# Altium footprint library IC_QFP.PcbLib: 10 footprints (part 3 of 4)
Each footprint in its own frame and in the unit in brackets; x right, y up, seen from the top. Pads: shape width x height; smd on the part's side, far side on the other; paste and mask are expansions set on the pad; w line width, h text height; cw(c..) or ccw(c..) is an arc to the next point about the centre after c.
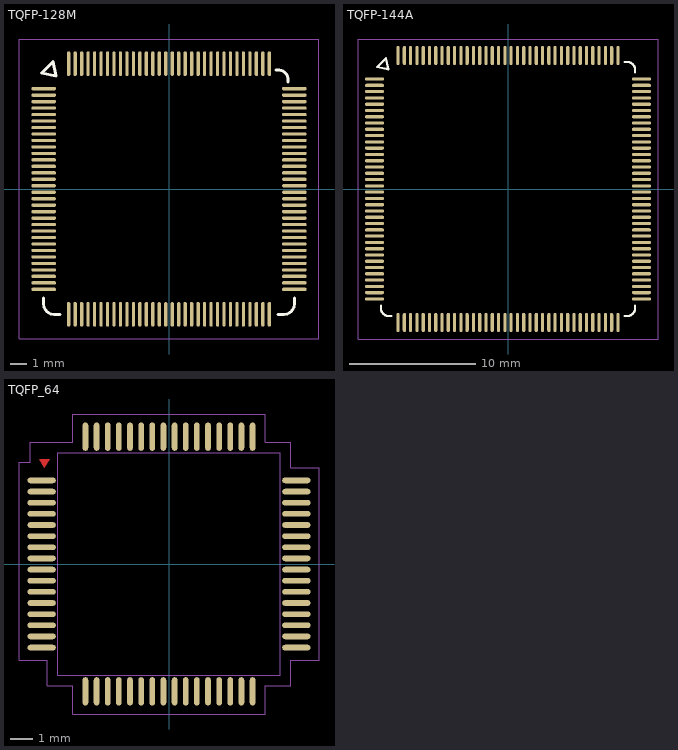
[diagram p2: the footprints below, top view; thin cyan lines are the x and y axes]

## TQFP-128M [mil]
pads (128):
  oval 60x8 smd mask+2: 1(-305,244.09) 2(-305,228.35) 3(-305,212.6) 4(-305,196.85) 5(-305,181.1) 6(-305,165.35) 7(-305,149.61) 8(-305,133.86) 9(-305,118.11) 10(-305,102.36) 11(-305,86.61) 12(-305,70.87) 13(-305,55.12) 14(-305,39.37) 15(-305,23.62) 16(-305,7.87) 17(-305,-7.87) 18(-305,-23.62) 19(-305,-39.37) 20(-305,-55.12) 21(-305,-70.87) 22(-305,-86.61) 23(-305,-102.36) 24(-305,-118.11) 25(-305,-133.86) 26(-305,-149.61) 27(-305,-165.35) 28(-305,-181.1) 29(-305,-196.85) 30(-305,-212.6) 31(-305,-228.35) 32(-305,-244.09) 65(305,-244.09) 66(305,-228.35) 67(305,-212.6) 68(305,-196.85) 69(305,-181.1) 70(305,-165.35) 71(305,-149.61) 72(305,-133.86) 73(305,-118.11) 74(305,-102.36) 75(305,-86.61) 76(305,-70.87) 77(305,-55.12) 78(305,-39.37) 79(305,-23.62) 80(305,-7.87) 81(305,7.87) 82(305,23.62) 83(305,39.37) 84(305,55.12) 85(305,70.87) 86(305,86.61) 87(305,102.36) 88(305,118.11) 89(305,133.86) 90(305,149.61) 91(305,165.35) 92(305,181.1) 93(305,196.85) 94(305,212.6) 95(305,228.35) 96(305,244.09)
  oval 8x60 smd mask+2: 33(-244.09,-305) 34(-228.35,-305) 35(-212.6,-305) 36(-196.85,-305) 37(-181.1,-305) 38(-165.35,-305) 39(-149.61,-305) 40(-133.86,-305) 41(-118.11,-305) 42(-102.36,-305) 43(-86.61,-305) 44(-70.87,-305) 45(-55.12,-305) 46(-39.37,-305) 47(-23.62,-305) 48(-7.87,-305) 49(7.87,-305) 50(23.62,-305) 51(39.37,-305) 52(55.12,-305) 53(70.87,-305) 54(86.61,-305) 55(102.36,-305) 56(118.11,-305) 57(133.86,-305) 58(149.61,-305) 59(165.35,-305) 60(181.1,-305) 61(196.85,-305) 62(212.6,-305) 63(228.35,-305) 64(244.09,-305) 97(244.09,305) 98(228.35,305) 99(212.6,305) 100(196.85,305) 101(181.1,305) 102(165.35,305) 103(149.61,305) 104(133.86,305) 105(118.11,305) 106(102.36,305) 107(86.61,305) 108(70.87,305) 109(55.12,305) 110(39.37,305) 111(23.62,305) 112(7.87,305) 113(-7.87,305) 114(-23.62,305) 115(-39.37,305) 116(-55.12,305) 117(-70.87,305) 118(-86.61,305) 119(-102.36,305) 120(-118.11,305) 121(-133.86,305) 122(-149.61,305) 123(-165.35,305) 124(-181.1,305) 125(-196.85,305) 126(-212.6,305) 127(-228.35,305) 128(-244.09,305)
Top Overlay:
  lines w7: -305,-265 -305,-280 ccw(c-280,-280) -280,-305 -265,-305 ; 260,290 264.96,289.96 cw(c264.96,264.96) 289.96,264.96 290,260 ; 265,-305 280,-305 ccw(c280,-280) 305,-280 305,-265 ; -309.8,281.96 -275,275 -281.96,309.8 -309.8,281.96
Top Courtyard:
  lines w1: -365,-365 365,-365 365,365 -365,365 -365,-365
3D body: height 45.5, standoff 45, extent -224,198 -198,224
3D body: height 30, standoff 23, extent 240.09,275 248.09,285
3D body: height 7, standoff 0, extent 240.09,295 248.09,315
3D body: height 30, standoff 0, extent 240.09,285 248.09,295
3D body: height 30, standoff 23, extent 224.35,275 232.35,285
3D body: height 7, standoff 0, extent 224.35,295 232.35,315
3D body: height 30, standoff 0, extent 224.35,285 232.35,295
3D body: height 30, standoff 23, extent 208.6,275 216.6,285
3D body: height 7, standoff 0, extent 208.6,295 216.6,315
3D body: height 30, standoff 0, extent 208.6,285 216.6,295
3D body: height 30, standoff 23, extent 192.85,275 200.85,285
3D body: height 7, standoff 0, extent 192.85,295 200.85,315
3D body: height 30, standoff 0, extent 192.85,285 200.85,295
3D body: height 30, standoff 23, extent 177.1,275 185.1,285
3D body: height 7, standoff 0, extent 177.1,295 185.1,315
3D body: height 30, standoff 0, extent 177.1,285 185.1,295
3D body: height 30, standoff 23, extent 161.35,275 169.35,285
3D body: height 7, standoff 0, extent 161.35,295 169.35,315
3D body: height 30, standoff 0, extent 161.35,285 169.35,295
3D body: height 30, standoff 0, extent 66.87,285 74.87,295
3D body: height 7, standoff 0, extent 66.87,295 74.87,315
3D body: height 30, standoff 23, extent 66.87,275 74.87,285
3D body: height 30, standoff 0, extent 82.61,285 90.61,295
3D body: height 7, standoff 0, extent 82.61,295 90.61,315
3D body: height 30, standoff 23, extent 82.61,275 90.61,285
3D body: height 30, standoff 0, extent 98.36,285 106.36,295
3D body: height 7, standoff 0, extent 98.36,295 106.36,315
3D body: height 30, standoff 23, extent 98.36,275 106.36,285
3D body: height 30, standoff 0, extent 114.11,285 122.11,295
3D body: height 7, standoff 0, extent 114.11,295 122.11,315
3D body: height 30, standoff 23, extent 114.11,275 122.11,285
3D body: height 30, standoff 0, extent 129.86,285 137.86,295
3D body: height 7, standoff 0, extent 129.86,295 137.86,315
3D body: height 30, standoff 23, extent 129.86,275 137.86,285
3D body: height 30, standoff 0, extent 145.61,285 153.61,295
3D body: height 7, standoff 0, extent 145.61,295 153.61,315
3D body: height 30, standoff 23, extent 145.61,275 153.61,285
3D body: height 30, standoff 0, extent -27.62,285 -19.62,295
3D body: height 7, standoff 0, extent -27.62,295 -19.62,315
3D body: height 30, standoff 23, extent -27.62,275 -19.62,285
3D body: height 30, standoff 0, extent -11.87,285 -3.87,295
3D body: height 7, standoff 0, extent -11.87,295 -3.87,315
3D body: height 30, standoff 23, extent -11.87,275 -3.87,285
3D body: height 30, standoff 0, extent 3.87,285 11.87,295
3D body: height 7, standoff 0, extent 3.87,295 11.87,315
3D body: height 30, standoff 23, extent 3.87,275 11.87,285
3D body: height 30, standoff 0, extent 19.62,285 27.62,295
3D body: height 7, standoff 0, extent 19.62,295 27.62,315
3D body: height 30, standoff 23, extent 19.62,275 27.62,285
3D body: height 30, standoff 0, extent 35.37,285 43.37,295
3D body: height 7, standoff 0, extent 35.37,295 43.37,315
3D body: height 30, standoff 23, extent 35.37,275 43.37,285
3D body: height 30, standoff 0, extent 51.12,285 59.12,295
3D body: height 7, standoff 0, extent 51.12,295 59.12,315
3D body: height 30, standoff 23, extent 51.12,275 59.12,285
3D body: height 30, standoff 0, extent -122.11,285 -114.11,295
3D body: height 7, standoff 0, extent -122.11,295 -114.11,315
3D body: height 30, standoff 23, extent -122.11,275 -114.11,285
3D body: height 30, standoff 0, extent -106.36,285 -98.36,295
3D body: height 7, standoff 0, extent -106.36,295 -98.36,315
3D body: height 30, standoff 23, extent -106.36,275 -98.36,285
3D body: height 30, standoff 0, extent -90.61,285 -82.61,295
3D body: height 7, standoff 0, extent -90.61,295 -82.61,315
3D body: height 30, standoff 23, extent -90.61,275 -82.61,285
3D body: height 30, standoff 0, extent -74.87,285 -66.87,295
3D body: height 7, standoff 0, extent -74.87,295 -66.87,315
3D body: height 30, standoff 23, extent -74.87,275 -66.87,285
3D body: height 30, standoff 0, extent -59.12,285 -51.12,295
3D body: height 7, standoff 0, extent -59.12,295 -51.12,315
3D body: height 30, standoff 23, extent -59.12,275 -51.12,285
3D body: height 30, standoff 0, extent -43.37,285 -35.37,295
3D body: height 7, standoff 0, extent -43.37,295 -35.37,315
3D body: height 30, standoff 23, extent -43.37,275 -35.37,285
3D body: height 30, standoff 0, extent -216.6,285 -208.6,295
3D body: height 7, standoff 0, extent -216.6,295 -208.6,315
3D body: height 30, standoff 23, extent -216.6,275 -208.6,285
3D body: height 30, standoff 0, extent -200.85,285 -192.85,295
3D body: height 7, standoff 0, extent -200.85,295 -192.85,315
3D body: height 30, standoff 23, extent -200.85,275 -192.85,285
3D body: height 30, standoff 0, extent -185.1,285 -177.1,295
3D body: height 7, standoff 0, extent -185.1,295 -177.1,315
3D body: height 30, standoff 23, extent -185.1,275 -177.1,285
3D body: height 30, standoff 0, extent -169.35,285 -161.35,295
3D body: height 7, standoff 0, extent -169.35,295 -161.35,315
3D body: height 30, standoff 23, extent -169.35,275 -161.35,285
3D body: height 30, standoff 0, extent -153.61,285 -145.61,295
3D body: height 7, standoff 0, extent -153.61,295 -145.61,315
3D body: height 30, standoff 23, extent -153.61,275 -145.61,285
3D body: height 30, standoff 0, extent -137.86,285 -129.86,295
3D body: height 7, standoff 0, extent -137.86,295 -129.86,315
3D body: height 30, standoff 23, extent -137.86,275 -129.86,285
3D body: height 30, standoff 0, extent -248.09,285 -240.09,295
3D body: height 7, standoff 0, extent -248.09,295 -240.09,315
3D body: height 30, standoff 23, extent -248.09,275 -240.09,285
3D body: height 30, standoff 0, extent -232.35,285 -224.35,295
3D body: height 7, standoff 0, extent -232.35,295 -224.35,315
3D body: height 30, standoff 23, extent -232.35,275 -224.35,285
3D body: height 30, standoff 23, extent 275,-248.09 285,-240.09
3D body: height 7, standoff 0, extent 295,-248.09 315,-240.09
3D body: height 30, standoff 0, extent 285,-248.09 295,-240.09
3D body: height 30, standoff 23, extent 275,-232.35 285,-224.35
3D body: height 7, standoff 0, extent 295,-232.35 315,-224.35
3D body: height 30, standoff 0, extent 285,-232.35 295,-224.35
3D body: height 30, standoff 23, extent 275,-216.6 285,-208.6
3D body: height 7, standoff 0, extent 295,-216.6 315,-208.6
3D body: height 30, standoff 0, extent 285,-216.6 295,-208.6
3D body: height 30, standoff 23, extent 275,-200.85 285,-192.85
3D body: height 7, standoff 0, extent 295,-200.85 315,-192.85
3D body: height 30, standoff 0, extent 285,-200.85 295,-192.85
3D body: height 30, standoff 23, extent 275,-185.1 285,-177.1
3D body: height 7, standoff 0, extent 295,-185.1 315,-177.1
3D body: height 30, standoff 0, extent 285,-185.1 295,-177.1
3D body: height 30, standoff 23, extent 275,-169.35 285,-161.35
3D body: height 7, standoff 0, extent 295,-169.35 315,-161.35
3D body: height 30, standoff 0, extent 285,-169.35 295,-161.35
3D body: height 30, standoff 0, extent 285,-74.87 295,-66.87
3D body: height 7, standoff 0, extent 295,-74.87 315,-66.87
3D body: height 30, standoff 23, extent 275,-74.87 285,-66.87
3D body: height 30, standoff 0, extent 285,-90.61 295,-82.61
3D body: height 7, standoff 0, extent 295,-90.61 315,-82.61
3D body: height 30, standoff 23, extent 275,-90.61 285,-82.61
3D body: height 30, standoff 0, extent 285,-106.36 295,-98.36
3D body: height 7, standoff 0, extent 295,-106.36 315,-98.36
3D body: height 30, standoff 23, extent 275,-106.36 285,-98.36
3D body: height 30, standoff 0, extent 285,-122.11 295,-114.11
3D body: height 7, standoff 0, extent 295,-122.11 315,-114.11
3D body: height 30, standoff 23, extent 275,-122.11 285,-114.11
3D body: height 30, standoff 0, extent 285,-137.86 295,-129.86
3D body: height 7, standoff 0, extent 295,-137.86 315,-129.86
3D body: height 30, standoff 23, extent 275,-137.86 285,-129.86
3D body: height 30, standoff 0, extent 285,-153.61 295,-145.61
3D body: height 7, standoff 0, extent 295,-153.61 315,-145.61
3D body: height 30, standoff 23, extent 275,-153.61 285,-145.61
3D body: height 30, standoff 0, extent 285,19.62 295,27.62
3D body: height 7, standoff 0, extent 295,19.62 315,27.62
3D body: height 30, standoff 23, extent 275,19.62 285,27.62
3D body: height 30, standoff 0, extent 285,3.87 295,11.87
3D body: height 7, standoff 0, extent 295,3.87 315,11.87
3D body: height 30, standoff 23, extent 275,3.87 285,11.87
3D body: height 30, standoff 0, extent 285,-11.87 295,-3.87
3D body: height 7, standoff 0, extent 295,-11.87 315,-3.87
3D body: height 30, standoff 23, extent 275,-11.87 285,-3.87
3D body: height 30, standoff 0, extent 285,-27.62 295,-19.62
3D body: height 7, standoff 0, extent 295,-27.62 315,-19.62
3D body: height 30, standoff 23, extent 275,-27.62 285,-19.62
3D body: height 30, standoff 0, extent 285,-43.37 295,-35.37
3D body: height 7, standoff 0, extent 295,-43.37 315,-35.37
3D body: height 30, standoff 23, extent 275,-43.37 285,-35.37
3D body: height 30, standoff 0, extent 285,-59.12 295,-51.12
3D body: height 7, standoff 0, extent 295,-59.12 315,-51.12
3D body: height 30, standoff 23, extent 275,-59.12 285,-51.12
3D body: height 30, standoff 0, extent 285,114.11 295,122.11
3D body: height 7, standoff 0, extent 295,114.11 315,122.11
3D body: height 30, standoff 23, extent 275,114.11 285,122.11
3D body: height 30, standoff 0, extent 285,98.36 295,106.36
3D body: height 7, standoff 0, extent 295,98.36 315,106.36
3D body: height 30, standoff 23, extent 275,98.36 285,106.36
3D body: height 30, standoff 0, extent 285,82.61 295,90.61
3D body: height 7, standoff 0, extent 295,82.61 315,90.61
3D body: height 30, standoff 23, extent 275,82.61 285,90.61
3D body: height 30, standoff 0, extent 285,66.87 295,74.87
3D body: height 7, standoff 0, extent 295,66.87 315,74.87
3D body: height 30, standoff 23, extent 275,66.87 285,74.87
3D body: height 30, standoff 0, extent 285,51.12 295,59.12
3D body: height 7, standoff 0, extent 295,51.12 315,59.12
3D body: height 30, standoff 23, extent 275,51.12 285,59.12
3D body: height 30, standoff 0, extent 285,35.37 295,43.37
3D body: height 7, standoff 0, extent 295,35.37 315,43.37
3D body: height 30, standoff 23, extent 275,35.37 285,43.37
3D body: height 30, standoff 0, extent 285,208.6 295,216.6
3D body: height 7, standoff 0, extent 295,208.6 315,216.6
3D body: height 30, standoff 23, extent 275,208.6 285,216.6
3D body: height 30, standoff 0, extent 285,192.85 295,200.85
3D body: height 7, standoff 0, extent 295,192.85 315,200.85
3D body: height 30, standoff 23, extent 275,192.85 285,200.85
3D body: height 30, standoff 0, extent 285,177.1 295,185.1
3D body: height 7, standoff 0, extent 295,177.1 315,185.1
3D body: height 30, standoff 23, extent 275,177.1 285,185.1
3D body: height 30, standoff 0, extent 285,161.35 295,169.35
3D body: height 7, standoff 0, extent 295,161.35 315,169.35
3D body: height 30, standoff 23, extent 275,161.35 285,169.35
3D body: height 30, standoff 0, extent 285,145.61 295,153.61
3D body: height 7, standoff 0, extent 295,145.61 315,153.61
3D body: height 30, standoff 23, extent 275,145.61 285,153.61
3D body: height 30, standoff 0, extent 285,129.86 295,137.86
3D body: height 7, standoff 0, extent 295,129.86 315,137.86
3D body: height 30, standoff 23, extent 275,129.86 285,137.86
3D body: height 30, standoff 0, extent 285,240.09 295,248.09
3D body: height 7, standoff 0, extent 295,240.09 315,248.09
3D body: height 30, standoff 23, extent 275,240.09 285,248.09
3D body: height 30, standoff 0, extent 285,224.35 295,232.35
3D body: height 7, standoff 0, extent 295,224.35 315,232.35
3D body: height 30, standoff 23, extent 275,224.35 285,232.35
3D body: height 30, standoff 23, extent -248.09,-285 -240.09,-275
3D body: height 7, standoff 0, extent -248.09,-315 -240.09,-295
3D body: height 30, standoff 0, extent -248.09,-295 -240.09,-285
3D body: height 30, standoff 23, extent -232.35,-285 -224.35,-275
3D body: height 7, standoff 0, extent -232.35,-315 -224.35,-295
3D body: height 30, standoff 0, extent -232.35,-295 -224.35,-285
3D body: height 30, standoff 23, extent -216.6,-285 -208.6,-275
3D body: height 7, standoff 0, extent -216.6,-315 -208.6,-295
3D body: height 30, standoff 0, extent -216.6,-295 -208.6,-285
3D body: height 30, standoff 23, extent -200.85,-285 -192.85,-275
3D body: height 7, standoff 0, extent -200.85,-315 -192.85,-295
3D body: height 30, standoff 0, extent -200.85,-295 -192.85,-285
3D body: height 30, standoff 23, extent -185.1,-285 -177.1,-275
3D body: height 7, standoff 0, extent -185.1,-315 -177.1,-295
3D body: height 30, standoff 0, extent -185.1,-295 -177.1,-285
3D body: height 30, standoff 23, extent -169.35,-285 -161.35,-275
3D body: height 7, standoff 0, extent -169.35,-315 -161.35,-295
3D body: height 30, standoff 0, extent -169.35,-295 -161.35,-285
3D body: height 30, standoff 0, extent -74.87,-295 -66.87,-285
3D body: height 7, standoff 0, extent -74.87,-315 -66.87,-295
3D body: height 30, standoff 23, extent -74.87,-285 -66.87,-275
3D body: height 30, standoff 0, extent -90.61,-295 -82.61,-285
3D body: height 7, standoff 0, extent -90.61,-315 -82.61,-295
3D body: height 30, standoff 23, extent -90.61,-285 -82.61,-275
3D body: height 30, standoff 0, extent -106.36,-295 -98.36,-285
3D body: height 7, standoff 0, extent -106.36,-315 -98.36,-295
3D body: height 30, standoff 23, extent -106.36,-285 -98.36,-275
3D body: height 30, standoff 0, extent -122.11,-295 -114.11,-285
3D body: height 7, standoff 0, extent -122.11,-315 -114.11,-295
3D body: height 30, standoff 23, extent -122.11,-285 -114.11,-275
3D body: height 30, standoff 0, extent -137.86,-295 -129.86,-285
3D body: height 7, standoff 0, extent -137.86,-315 -129.86,-295
3D body: height 30, standoff 23, extent -137.86,-285 -129.86,-275
3D body: height 30, standoff 0, extent -153.61,-295 -145.61,-285
3D body: height 7, standoff 0, extent -153.61,-315 -145.61,-295
3D body: height 30, standoff 23, extent -153.61,-285 -145.61,-275
3D body: height 30, standoff 0, extent 19.62,-295 27.62,-285
3D body: height 7, standoff 0, extent 19.62,-315 27.62,-295
3D body: height 30, standoff 23, extent 19.62,-285 27.62,-275
3D body: height 30, standoff 0, extent 3.87,-295 11.87,-285
3D body: height 7, standoff 0, extent 3.87,-315 11.87,-295
3D body: height 30, standoff 23, extent 3.87,-285 11.87,-275
3D body: height 30, standoff 0, extent -11.87,-295 -3.87,-285
3D body: height 7, standoff 0, extent -11.87,-315 -3.87,-295
3D body: height 30, standoff 23, extent -11.87,-285 -3.87,-275
3D body: height 30, standoff 0, extent -27.62,-295 -19.62,-285
3D body: height 7, standoff 0, extent -27.62,-315 -19.62,-295
3D body: height 30, standoff 23, extent -27.62,-285 -19.62,-275
3D body: height 30, standoff 0, extent -43.37,-295 -35.37,-285
3D body: height 7, standoff 0, extent -43.37,-315 -35.37,-295
3D body: height 30, standoff 23, extent -43.37,-285 -35.37,-275
3D body: height 30, standoff 0, extent -59.12,-295 -51.12,-285
3D body: height 7, standoff 0, extent -59.12,-315 -51.12,-295
3D body: height 30, standoff 23, extent -59.12,-285 -51.12,-275
3D body: height 30, standoff 0, extent 114.11,-295 122.11,-285
3D body: height 7, standoff 0, extent 114.11,-315 122.11,-295
3D body: height 30, standoff 23, extent 114.11,-285 122.11,-275
3D body: height 30, standoff 0, extent 98.36,-295 106.36,-285
3D body: height 7, standoff 0, extent 98.36,-315 106.36,-295
3D body: height 30, standoff 23, extent 98.36,-285 106.36,-275
3D body: height 30, standoff 0, extent 82.61,-295 90.61,-285
3D body: height 7, standoff 0, extent 82.61,-315 90.61,-295
3D body: height 30, standoff 23, extent 82.61,-285 90.61,-275
3D body: height 30, standoff 0, extent 66.87,-295 74.87,-285
3D body: height 7, standoff 0, extent 66.87,-315 74.87,-295
3D body: height 30, standoff 23, extent 66.87,-285 74.87,-275
3D body: height 30, standoff 0, extent 51.12,-295 59.12,-285
3D body: height 7, standoff 0, extent 51.12,-315 59.12,-295
3D body: height 30, standoff 23, extent 51.12,-285 59.12,-275
3D body: height 30, standoff 0, extent 35.37,-295 43.37,-285
3D body: height 7, standoff 0, extent 35.37,-315 43.37,-295
3D body: height 30, standoff 23, extent 35.37,-285 43.37,-275
3D body: height 30, standoff 0, extent 208.6,-295 216.6,-285
3D body: height 7, standoff 0, extent 208.6,-315 216.6,-295
3D body: height 30, standoff 23, extent 208.6,-285 216.6,-275
3D body: height 30, standoff 0, extent 192.85,-295 200.85,-285
3D body: height 7, standoff 0, extent 192.85,-315 200.85,-295
3D body: height 30, standoff 23, extent 192.85,-285 200.85,-275
3D body: height 30, standoff 0, extent 177.1,-295 185.1,-285
3D body: height 7, standoff 0, extent 177.1,-315 185.1,-295
3D body: height 30, standoff 23, extent 177.1,-285 185.1,-275
3D body: height 30, standoff 0, extent 161.35,-295 169.35,-285
3D body: height 7, standoff 0, extent 161.35,-315 169.35,-295
3D body: height 30, standoff 23, extent 161.35,-285 169.35,-275
3D body: height 30, standoff 0, extent 145.61,-295 153.61,-285
3D body: height 7, standoff 0, extent 145.61,-315 153.61,-295
3D body: height 30, standoff 23, extent 145.61,-285 153.61,-275
3D body: height 30, standoff 0, extent 129.86,-295 137.86,-285
3D body: height 7, standoff 0, extent 129.86,-315 137.86,-295
3D body: height 30, standoff 23, extent 129.86,-285 137.86,-275
3D body: height 30, standoff 0, extent 240.09,-295 248.09,-285
3D body: height 7, standoff 0, extent 240.09,-315 248.09,-295
3D body: height 30, standoff 23, extent 240.09,-285 248.09,-275
3D body: height 30, standoff 0, extent 224.35,-295 232.35,-285
3D body: height 7, standoff 0, extent 224.35,-315 232.35,-295
3D body: height 30, standoff 23, extent 224.35,-285 232.35,-275
3D body: height 30, standoff 23, extent -285,-232.35 -275,-224.35
3D body: height 7, standoff 0, extent -315,-232.35 -295,-224.35
3D body: height 30, standoff 0, extent -295,-232.35 -285,-224.35
3D body: height 30, standoff 23, extent -285,-248.09 -275,-240.09
3D body: height 7, standoff 0, extent -315,-248.09 -295,-240.09
3D body: height 30, standoff 0, extent -295,-248.09 -285,-240.09
3D body: height 30, standoff 23, extent -285,-137.86 -275,-129.86
3D body: height 7, standoff 0, extent -315,-137.86 -295,-129.86
3D body: height 30, standoff 0, extent -295,-137.86 -285,-129.86
3D body: height 30, standoff 23, extent -285,-153.61 -275,-145.61
3D body: height 7, standoff 0, extent -315,-153.61 -295,-145.61
3D body: height 30, standoff 0, extent -295,-153.61 -285,-145.61
3D body: height 30, standoff 23, extent -285,-169.35 -275,-161.35
3D body: height 7, standoff 0, extent -315,-169.35 -295,-161.35
3D body: height 30, standoff 0, extent -295,-169.35 -285,-161.35
3D body: height 30, standoff 23, extent -285,-185.1 -275,-177.1
3D body: height 7, standoff 0, extent -315,-185.1 -295,-177.1
3D body: height 30, standoff 0, extent -295,-185.1 -285,-177.1
3D body: height 30, standoff 23, extent -285,-200.85 -275,-192.85
3D body: height 7, standoff 0, extent -315,-200.85 -295,-192.85
3D body: height 30, standoff 0, extent -295,-200.85 -285,-192.85
3D body: height 30, standoff 23, extent -285,-216.6 -275,-208.6
3D body: height 7, standoff 0, extent -315,-216.6 -295,-208.6
3D body: height 30, standoff 0, extent -295,-216.6 -285,-208.6
3D body: height 30, standoff 23, extent -285,-43.37 -275,-35.37
3D body: height 7, standoff 0, extent -315,-43.37 -295,-35.37
3D body: height 30, standoff 0, extent -295,-43.37 -285,-35.37
3D body: height 30, standoff 23, extent -285,-59.12 -275,-51.12
3D body: height 7, standoff 0, extent -315,-59.12 -295,-51.12
3D body: height 30, standoff 0, extent -295,-59.12 -285,-51.12
3D body: height 30, standoff 23, extent -285,-74.87 -275,-66.87
3D body: height 7, standoff 0, extent -315,-74.87 -295,-66.87
3D body: height 30, standoff 0, extent -295,-74.87 -285,-66.87
3D body: height 30, standoff 23, extent -285,-90.61 -275,-82.61
3D body: height 7, standoff 0, extent -315,-90.61 -295,-82.61
3D body: height 30, standoff 0, extent -295,-90.61 -285,-82.61
3D body: height 30, standoff 23, extent -285,-106.36 -275,-98.36
3D body: height 7, standoff 0, extent -315,-106.36 -295,-98.36
3D body: height 30, standoff 0, extent -295,-106.36 -285,-98.36
3D body: height 30, standoff 23, extent -285,-122.11 -275,-114.11
3D body: height 7, standoff 0, extent -315,-122.11 -295,-114.11
3D body: height 30, standoff 0, extent -295,-122.11 -285,-114.11
3D body: height 30, standoff 23, extent -285,51.12 -275,59.12
3D body: height 7, standoff 0, extent -315,51.12 -295,59.12
3D body: height 30, standoff 0, extent -295,51.12 -285,59.12
3D body: height 30, standoff 23, extent -285,35.37 -275,43.37
3D body: height 7, standoff 0, extent -315,35.37 -295,43.37
3D body: height 30, standoff 0, extent -295,35.37 -285,43.37
3D body: height 30, standoff 23, extent -285,19.62 -275,27.62
3D body: height 7, standoff 0, extent -315,19.62 -295,27.62
3D body: height 30, standoff 0, extent -295,19.62 -285,27.62
3D body: height 30, standoff 23, extent -285,3.87 -275,11.87
3D body: height 7, standoff 0, extent -315,3.87 -295,11.87
3D body: height 30, standoff 0, extent -295,3.87 -285,11.87
3D body: height 30, standoff 23, extent -285,-11.87 -275,-3.87
3D body: height 7, standoff 0, extent -315,-11.87 -295,-3.87
3D body: height 30, standoff 0, extent -295,-11.87 -285,-3.87
3D body: height 30, standoff 23, extent -285,-27.62 -275,-19.62
3D body: height 7, standoff 0, extent -315,-27.62 -295,-19.62
3D body: height 30, standoff 0, extent -295,-27.62 -285,-19.62
3D body: height 30, standoff 23, extent -285,145.61 -275,153.61
3D body: height 7, standoff 0, extent -315,145.61 -295,153.61
3D body: height 30, standoff 0, extent -295,145.61 -285,153.61
3D body: height 30, standoff 23, extent -285,129.86 -275,137.86
3D body: height 7, standoff 0, extent -315,129.86 -295,137.86
3D body: height 30, standoff 0, extent -295,129.86 -285,137.86
3D body: height 30, standoff 23, extent -285,114.11 -275,122.11
3D body: height 7, standoff 0, extent -315,114.11 -295,122.11
3D body: height 30, standoff 0, extent -295,114.11 -285,122.11
3D body: height 30, standoff 23, extent -285,98.36 -275,106.36
3D body: height 7, standoff 0, extent -315,98.36 -295,106.36
3D body: height 30, standoff 0, extent -295,98.36 -285,106.36
3D body: height 30, standoff 23, extent -285,82.61 -275,90.61
3D body: height 7, standoff 0, extent -315,82.61 -295,90.61
3D body: height 30, standoff 0, extent -295,82.61 -285,90.61
3D body: height 30, standoff 23, extent -285,66.87 -275,74.87
3D body: height 7, standoff 0, extent -315,66.87 -295,74.87
3D body: height 30, standoff 0, extent -295,66.87 -285,74.87
3D body: height 30, standoff 0, extent -295,161.35 -285,169.35
3D body: height 7, standoff 0, extent -315,161.35 -295,169.35
3D body: height 30, standoff 23, extent -285,161.35 -275,169.35
3D body: height 30, standoff 0, extent -295,177.1 -285,185.1
3D body: height 7, standoff 0, extent -315,177.1 -295,185.1
3D body: height 30, standoff 23, extent -285,177.1 -275,185.1
3D body: height 30, standoff 0, extent -295,192.85 -285,200.85
3D body: height 7, standoff 0, extent -315,192.85 -295,200.85
3D body: height 30, standoff 23, extent -285,192.85 -275,200.85
3D body: height 30, standoff 0, extent -295,208.6 -285,216.6
3D body: height 7, standoff 0, extent -315,208.6 -295,216.6
3D body: height 30, standoff 23, extent -285,208.6 -275,216.6
3D body: height 30, standoff 0, extent -295,224.35 -285,232.35
3D body: height 7, standoff 0, extent -315,224.35 -295,232.35
3D body: height 30, standoff 23, extent -285,224.35 -275,232.35
3D body: height 30, standoff 0, extent -295,240.09 -285,248.09
3D body: height 7, standoff 0, extent -315,240.09 -295,248.09
3D body: height 30, standoff 23, extent -285,240.09 -275,248.09
3D body: height 45, standoff 0, extent -276,-276 276,276

## TQFP-144A [mil]
pads (144):
  oval 60x10 smd mask+2: 1(-418.27,344.49) 2(-418.27,324.8) 3(-418.27,305.12) 4(-418.27,285.43) 5(-418.27,265.75) 6(-418.27,246.06) 7(-418.27,226.38) 8(-418.27,206.69) 9(-418.27,187.01) 10(-418.27,167.32) 11(-418.27,147.64) 12(-418.27,127.95) 13(-418.27,108.27) 14(-418.27,88.58) 15(-418.27,68.9) 16(-418.27,49.21) 17(-418.27,29.53) 18(-418.27,9.84) 19(-418.27,-9.84) 20(-418.27,-29.53) 21(-418.27,-49.21) 22(-418.27,-68.9) 23(-418.27,-88.58) 24(-418.27,-108.27) 25(-418.27,-127.95) 26(-418.27,-147.64) 27(-418.27,-167.32) 28(-418.27,-187.01) 29(-418.27,-206.69) 30(-418.27,-226.38) 31(-418.27,-246.06) 32(-418.27,-265.75) 33(-418.27,-285.43) 34(-418.27,-305.12) 35(-418.27,-324.8) 36(-418.27,-344.49) 73(418.27,-344.49) 74(418.27,-324.8) 75(418.27,-305.12) 76(418.27,-285.43) 77(418.27,-265.75) 78(418.27,-246.06) 79(418.27,-226.38) 80(418.27,-206.69) 81(418.27,-187.01) 82(418.27,-167.32) 83(418.27,-147.64) 84(418.27,-127.95) 85(418.27,-108.27) 86(418.27,-88.58) 87(418.27,-68.9) 88(418.27,-49.21) 89(418.27,-29.53) 90(418.27,-9.84) 91(418.27,9.84) 92(418.27,29.53) 93(418.27,49.21) 94(418.27,68.9) 95(418.27,88.58) 96(418.27,108.27) 97(418.27,127.95) 98(418.27,147.64) 99(418.27,167.32) 100(418.27,187.01) 101(418.27,206.69) 102(418.27,226.38) 103(418.27,246.06) 104(418.27,265.75) 105(418.27,285.43) 106(418.27,305.12) 107(418.27,324.8) 108(418.27,344.49)
  oval 10x60 smd mask+2: 37(-344.49,-418.27) 38(-324.8,-418.27) 39(-305.12,-418.27) 40(-285.43,-418.27) 41(-265.75,-418.27) 42(-246.06,-418.27) 43(-226.38,-418.27) 44(-206.69,-418.27) 45(-187.01,-418.27) 46(-167.32,-418.27) 47(-147.64,-418.27) 48(-127.95,-418.27) 49(-108.27,-418.27) 50(-88.58,-418.27) 51(-68.9,-418.27) 52(-49.21,-418.27) 53(-29.53,-418.27) 54(-9.84,-418.27) 55(9.84,-418.27) 56(29.53,-418.27) 57(49.21,-418.27) 58(68.9,-418.27) 59(88.58,-418.27) 60(108.27,-418.27) 61(127.95,-418.27) 62(147.64,-418.27) 63(167.32,-418.27) 64(187.01,-418.27) 65(206.69,-418.27) 66(226.38,-418.27) 67(246.06,-418.27) 68(265.75,-418.27) 69(285.43,-418.27) 70(305.12,-418.27) 71(324.8,-418.27) 72(344.49,-418.27) 109(344.49,418.27) 110(324.8,418.27) 111(305.12,418.27) 112(285.43,418.27) 113(265.75,418.27) 114(246.06,418.27) 115(226.38,418.27) 116(206.69,418.27) 117(187.01,418.27) 118(167.32,418.27) 119(147.64,418.27) 120(127.95,418.27) 121(108.27,418.27) 122(88.58,418.27) 123(68.9,418.27) 124(49.21,418.27) 125(29.53,418.27) 126(9.84,418.27) 127(-9.84,418.27) 128(-29.53,418.27) 129(-49.21,418.27) 130(-68.9,418.27) 131(-88.58,418.27) 132(-108.27,418.27) 133(-127.95,418.27) 134(-147.64,418.27) 135(-167.32,418.27) 136(-187.01,418.27) 137(-206.69,418.27) 138(-226.38,418.27) 139(-246.06,418.27) 140(-265.75,418.27) 141(-285.43,418.27) 142(-305.12,418.27) 143(-324.8,418.27) 144(-344.49,418.27)
Top Overlay:
  lines w7: -398.23,-365 -398.23,-373.23 ccw(c-373.23,-373.23) -373.23,-398.23 -365,-398.23 ; 365,-398.23 373.23,-398.23 ccw(c373.23,-373.23) 398.23,-373.23 398.23,-365 ; 365,398.23 373.23,398.23 cw(c373.23,373.23) 398.23,373.23 398.23,365 ; -409.8,381.96 -375,375 -381.96,409.8 -409.8,381.96
Top Courtyard:
  lines w1: -470,-470 -470,470 470,470 470,-470 -470,-470
3D body "LQFP144_20X20_P050.STEP": height 62.99, standoff 0, extent -433.07,-433.07 433.07,433.07

## TQFP_64 [mil]
pads (64):
  oval 50x10 smd mask+2: 1(-225,147.64) 2(-225,127.95) 3(-225,108.27) 4(-225,88.58) 5(-225,68.9) 6(-225,49.21) 7(-225,29.53) 8(-225,9.84) 9(-225,-9.84) 10(-225,-29.53) 11(-225,-49.21) 12(-225,-68.9) 13(-225,-88.58) 14(-225,-108.27) 15(-225,-127.95) 16(-225,-147.64) 33(225,-147.64) 34(225,-127.95) 35(225,-108.27) 36(225,-88.58) 37(225,-68.9) 38(225,-49.21) 39(225,-29.53) 40(225,-9.84) 41(225,9.84) 42(225,29.53) 43(225,49.21) 44(225,68.9) 45(225,88.58) 46(225,108.27) 47(225,127.95) 48(225,147.64)
  oval 10x50 smd mask+2: 17(-147.64,-225) 18(-127.95,-225) 19(-108.27,-225) 20(-88.58,-225) 21(-68.9,-225) 22(-49.21,-225) 23(-29.53,-225) 24(-9.84,-225) 25(9.84,-225) 26(29.53,-225) 27(49.21,-225) 28(68.9,-225) 29(88.58,-225) 30(108.27,-225) 31(127.95,-225) 32(147.64,-225) 49(147.64,225) 50(127.95,225) 51(108.27,225) 52(88.58,225) 53(68.9,225) 54(49.21,225) 55(29.53,225) 56(9.84,225) 57(-9.84,225) 58(-29.53,225) 59(-49.21,225) 60(-68.9,225) 61(-88.58,225) 62(-108.27,225) 63(-127.95,225) 64(-147.64,225)
Top Layer:
  region: -220,170 -211,185 -229,185
Top Courtyard:
  lines w1: -265,-170 -215,-170 -215,-215 -170,-215 -170,-265 170,-265 170,-215 215,-215 215,-170 265,-170 265,170 215,170 215,215 170,215 170,265 -170,265 -170,215 -245,215 -245,180 -265,180 -265,-170
Top Component Outline:
  lines w1: -196.85,-196.85 -196.85,196.85 196.85,196.85 196.85,-196.85 -196.85,-196.85
3D body "TQFP-64.STEP": height 46.24, standoff -0.97, extent -236.22,-236.22 236.23,236.23